# Altium footprint library AtaPcbLib.PcbLib: 50 footprints (part 3 of 4)
Each footprint in its own frame and in the unit in brackets; x right, y up, seen from the top. Pads: shape width x height; smd on the part's side, far side on the other; paste and mask are expansions set on the pad; w line width, h text height; cw(c..) or ccw(c..) is an arc to the next point about the centre after c.
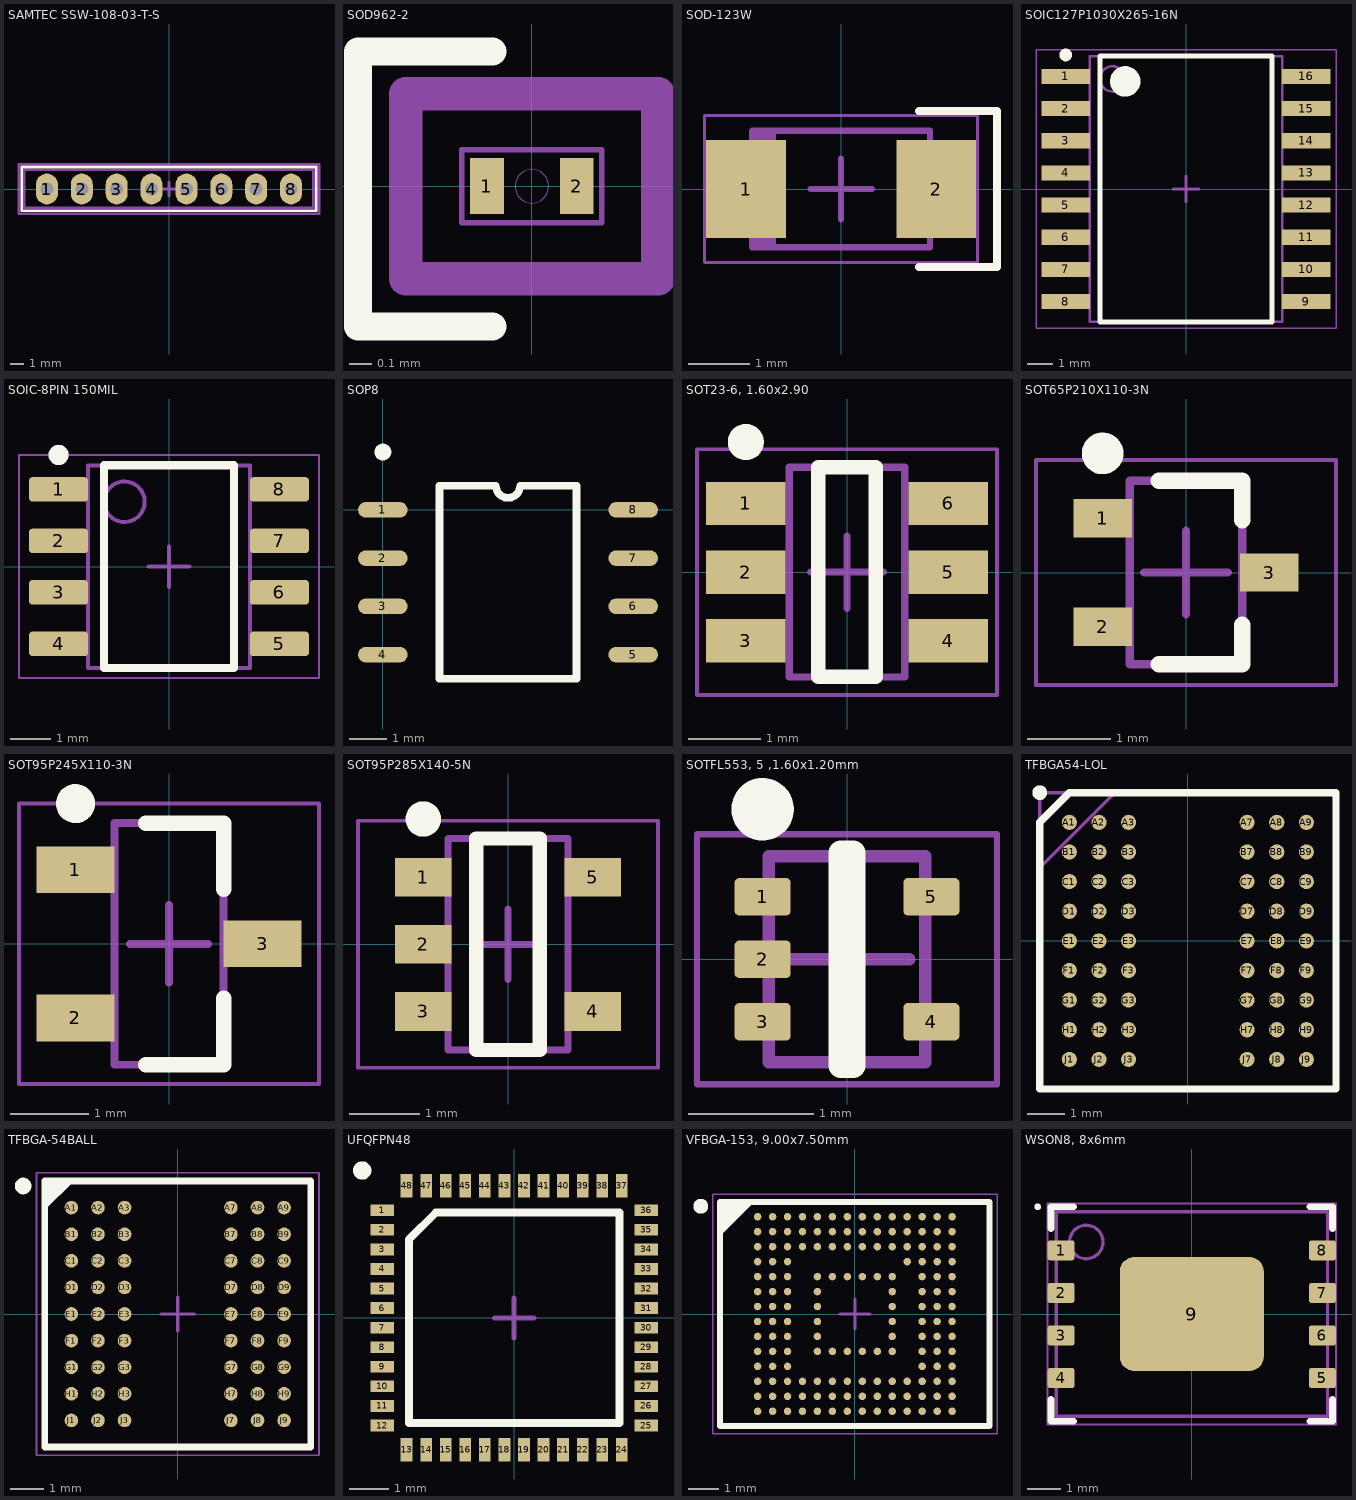
[diagram p2: the footprints below, top view; thin cyan lines are the x and y axes]

## SAMTEC SSW-108-03-T-S [mm]
height 8.51
pads (8):
  oval 1.6x2.25 hole 0.95: 1(-8.89,0) 2(-6.35,0) 3(-3.81,0) 4(-1.27,0) 5(1.27,0) 6(3.81,0) 7(6.35,0) 8(8.89,0)
Top Overlay:
  lines w0.2: -10.719,-1.575 -4.905,-1.575 4.905,-1.575 10.719,-1.575 10.719,1.6 -10.719,1.6 -10.719,-1.575
Mechanical 13:
  lines w0.2: -10.541,-1.372 -10.541,1.397 10.516,1.397 10.516,-1.372 -10.541,-1.372
Mechanical 15:
  lines w0.2: -0.5,0 0.5,0 ; 0,-0.5 0,0.5 ; -10.92,-1.8 10.92,-1.8 10.92,1.8 -10.92,1.8 -10.92,-1.8
3D body "Samtec-SSW-108-03-T-S.STEP": height 8.51, standoff -10.01, extent -10.414,-1.206 10.414,1.207

## SOD962-2 [mil]
pads (2):
  rect 6x10 smd paste+0 mask+0: 1(-8,0) 2(8,0)
Top Overlay:
  lines w5: -7,-25 -31,-25 -31,24 -8,24 -7,24
Mechanical 13:
  circle w0: c0,0 r3
  lines w1: -12.5,-6.5 12.5,-6.5 12.5,6.5 -12.5,6.5 -12.5,-6.5
Mechanical 15:
  lines w6: -22.5,-16.5 -22.5,-15 -22.5,15 -22.5,16.5 22.5,16.5 22.5,15 22.5,-15 22.5,-16.5 -22.5,-16.5
3D body "SOD962-2_DSN0603-2_NEX.step": height 13.11, standoff 0, extent -12.52,-6.5 12.52,6.5

## SOD-123W [mm] "Molded Diode, 2-Leads, Body 2,75x1,80mm, IPC Medium Density"
height 1.02
pads (2):
  rect 1.3x1.6 smd: 1(-1.55,0) 2(1.55,0)
Top Overlay:
  lines w0.127: 1.27,-1.27 2.54,-1.27 2.54,1.27 1.27,1.27
Mechanical 13:
  rectangle: -1.45,-0.95 -1.06,0.95
  lines w0.1: -1.45,-0.95 1.45,-0.95 1.45,0.95 -1.45,0.95 -1.45,-0.95
Mechanical 15:
  lines w0.05: -2.225,-1.2 2.225,-1.2 2.225,1.2 -2.225,1.2 -2.225,-1.2
  lines w0.1: -0.5,0 0.5,0 ; 0,-0.5 0,0.5
3D body "SOD-123W.step": height 1.02, standoff 0, extent -1.67,-0.95 1.67,0.95

## SOIC127P1030X265-16N [mm] "SOIC, 16-Leads, Body 10,29x7,49mm, Pitch 1,27mm, IPC Medium Density"
height 2.65
pads (16):
  rect 1.9x0.6 smd: 1(-4.75,4.445) 2(-4.75,3.175) 3(-4.75,1.905) 4(-4.75,0.635) 5(-4.75,-0.635) 6(-4.75,-1.905) 7(-4.75,-3.175) 8(-4.75,-4.445) 9(4.75,-4.445) 10(4.75,-3.175) 11(4.75,-1.905) 12(4.75,-0.635) 13(4.75,0.635) 14(4.75,1.905) 15(4.75,3.175) 16(4.75,4.445)
Top Overlay:
  circle w0.6: c-2.4,4.25 r0.3
  circle w0.25: c-4.75,5.295 r0.125
  lines w0.2: -3.4,-5.25 3.4,-5.25 3.4,5.25 -3.4,5.25 -3.4,-5.25
Mechanical 13:
  circle w0.1: c-2.9,4.35 r0.5
  lines w0.1: -3.8,-5.25 3.8,-5.25 3.8,5.25 -3.8,5.25 -3.8,-5.25
Mechanical 15:
  lines w0.05: -5.925,-5.5 5.925,-5.5 5.925,5.5 -5.925,5.5 -5.925,-5.5
  lines w0.1: -0.5,0 0.5,0 ; 0,-0.5 0,0.5
3D body "SOIC127P1030X265-16N.step": height 2.65, standoff 0, extent -5.162,-5.25 5.162,5.25

## SOIC-8PIN 150MIL [mm] "SOIC, 8-Leads, Body 4,90x3,90mm, Pitch 1,27mm, IPC Medium Density"
height 1.75
pads (8):
  rrect25% 1.45x0.6 smd mask+0.06: 1(-2.725,1.905) 2(-2.725,0.635) 3(-2.725,-0.635) 4(-2.725,-1.905) 5(2.725,-1.905) 6(2.725,-0.635) 7(2.725,0.635) 8(2.725,1.905)
Top Overlay:
  circle w0.25: c-2.725,2.755 r0.125
  lines w0.2: -1.6,-2.5 -1.6,2.5 1.6,2.5 1.6,-2.5 -1.6,-2.5
Mechanical 13:
  circle w0.1: c-1.1,1.6 r0.5
  lines w0.1: -2,-2.5 -2,2.5 2,2.5 2,-2.5 -2,-2.5
Mechanical 15:
  lines w0.05: -3.7,-2.75 -3.7,2.75 3.7,2.75 3.7,-2.75 -3.7,-2.75
  lines w0.1: -0.5,0 0.5,0 ; 0,-0.5 0,0.5
3D body "SOIC-8PIN 15MIL.step": height 1.75, standoff 0, extent -3,-2.5 3,2.5

## SOP8 [mm]
pads (8):
  oval 1.31x0.41 smd: 1(0,0) 2(0,-1.27) 3(0,-2.54) 4(0,-3.81) 5(6.59,-3.81) 6(6.59,-2.54) 7(6.59,-1.27) 8(6.59,0)
Top Overlay:
  circle w0.254: c0,1.524 r0.094
  lines w0.2: 1.49,-4.445 1.49,0.635 2.977,0.635 ccw(c3.295,0.635) 3.612,0.635 5.1,0.635 5.1,-4.445 1.49,-4.445

## SOT23-6, 1.60x2.90 [mm] "SOT23, 6-Leads, Body 2,90x2,80mm, Pitch 0,95mm, IPC Medium Density"
height 1.45
pads (6):
  rect 1.1x0.6 smd mask+0.05: 1(-1.4,0.95) 2(-1.4,0) 3(-1.4,-0.95) 4(1.4,-0.95) 5(1.4,0) 6(1.4,0.95)
Top Overlay:
  circle w0.25: c-1.4,1.8 r0.125
  lines w0.2: -0.4,-1.45 -0.4,1.45 0.4,1.45 0.4,-1.45 -0.4,-1.45
Mechanical 13:
  lines w0.1: -0.8,-1.45 0.8,-1.45 0.8,1.45 -0.8,1.45 -0.8,-1.45
Mechanical 15:
  lines w0.05: -2.075,-1.7 2.075,-1.7 2.075,1.7 -2.075,1.7 -2.075,-1.7
  lines w0.1: -0.5,0 0.5,0 ; 0,-0.5 0,0.5
3D body "SOT23-6, 1.60x2.90.step": height 1.45, standoff 0, extent -1.4,-1.45 1.4,1.45

## SOT65P210X110-3N [mm] "SOT23, 3-Leads, Body 2,00x2,10mm, Pitch 0,65mm, IPC Medium Density"
height 1.1
pads (3):
  rect 0.7x0.46 smd: 1(-1,0.65) 2(-1,-0.65) 3(1,0)
Top Overlay:
  circle w0.25: c-1,1.43 r0.125
  lines w0.2: -0.325,-1.1 0.675,-1.1 0.675,-0.63 ; -0.325,1.1 0.675,1.1 0.675,0.63
Mechanical 13:
  lines w0.1: -0.675,-1.1 0.675,-1.1 0.675,1.1 -0.675,1.1 -0.675,-1.1
Mechanical 15:
  lines w0.05: -1.8,-1.35 1.8,-1.35 1.8,1.35 -1.8,1.35 -1.8,-1.35
  lines w0.1: -0.5,0 0.5,0 ; 0,-0.5 0,0.5
3D body "SOT65P210X110-3N.step": height 1.1, standoff 0, extent -1.3,-1.1 1.3,1.1

## SOT95P245X110-3N [mm] "SOT23, 3-Leads, Body 3,00x2,45mm, Pitch 0,95mm, IPC Medium Density"
height 1.1
pads (3):
  rect 1x0.6 smd: 1(-1.2,0.95) 2(-1.2,-0.95) 3(1.2,0)
Top Overlay:
  circle w0.25: c-1.2,1.8 r0.125
  lines w0.2: -0.3,-1.55 0.7,-1.55 0.7,-0.7 ; -0.3,1.55 0.7,1.55 0.7,0.7
Mechanical 13:
  lines w0.1: -0.7,-1.55 -0.7,1.55 0.7,1.55 0.7,-1.55 -0.7,-1.55
Mechanical 15:
  lines w0.05: -1.925,-1.8 -1.925,1.8 1.925,1.8 1.925,-1.8 -1.925,-1.8
  lines w0.1: -0.5,0 0.5,0 ; 0,-0.5 0,0.5
3D body: height 1.1, standoff 0.05, extent -0.7,-1.55 0.7,1.55

## SOT95P285X140-5N [mm] "SOT23, 5-Leads, Body 2,85x2,85mm, Pitch 0,95mm, IPC Medium Density"
height 1.4
pads (5):
  rect 0.8x0.55 smd: 1(-1.2,0.95) 2(-1.2,0) 3(-1.2,-0.95) 4(1.2,-0.95) 5(1.2,0.95)
Top Overlay:
  circle w0.25: c-1.2,1.775 r0.125
  lines w0.2: -0.45,-1.5 -0.45,1.5 0.45,1.5 0.45,-1.5 -0.45,-1.5
Mechanical 13:
  lines w0.1: -0.85,-1.5 0.85,-1.5 0.85,1.5 -0.85,1.5 -0.85,-1.5
Mechanical 15:
  lines w0.05: -2.125,-1.75 2.125,-1.75 2.125,1.75 -2.125,1.75 -2.125,-1.75
  lines w0.1: -0.5,0 0.5,0 ; 0,-0.5 0,0.5
3D body "SOT95P285X140-5N.step": height 1.4, standoff 0, extent -1.5,-1.5 1.5,1.5

## SOTFL553, 5 ,1.60x1.20mm [mm] "SOTFL, 5-Leads, Body 1,60x1,60mm, Pitch 0,50mm, IPC Medium Density"
height 0.6
pads (5):
  rrect25% 0.45x0.3 smd mask+0.05: 1(-0.675,0.5) 2(-0.675,0) 3(-0.675,-0.5) 4(0.675,-0.5) 5(0.675,0.5)
Top Overlay:
  circle w0.25: c-0.675,1.2 r0.125
  lines w0.2: -0.05,-0.85 0.05,-0.85 0.05,0.85 -0.05,0.85 -0.05,-0.85
Mechanical 13:
  lines w0.1: -0.625,-0.825 -0.625,0.825 0.625,0.825 0.625,-0.825 -0.625,-0.825
Mechanical 15:
  lines w0.05: -1.2,-1 -1.2,1 1.2,1 1.2,-1 -1.2,-1
  lines w0.1: -0.5,0 0.5,0 ; 0,-0.5 0,0.5
3D body "SOTFL553, 5 ,1.60x1.20mm.step": height 0.6, standoff 0, extent -0.8,-0.823 0.8,0.823

## TFBGA54-LOL [mm]
pads (54):
  round 0.41 smd: A1(-3.2,3.2) A2(-2.4,3.2) A3(-1.6,3.2) A7(1.6,3.2) A8(2.4,3.2) A9(3.2,3.2) B1(-3.2,2.4) B2(-2.4,2.4) B3(-1.6,2.4) B7(1.6,2.4) B8(2.4,2.4) B9(3.2,2.4) C1(-3.2,1.6) C2(-2.4,1.6) C3(-1.6,1.6) C7(1.6,1.6) C8(2.4,1.6) C9(3.2,1.6) D1(-3.2,0.8) D2(-2.4,0.8) D3(-1.6,0.8) D7(1.6,0.8) D8(2.4,0.8) D9(3.2,0.8) E1(-3.2,0) E2(-2.4,0) E3(-1.6,0) E7(1.6,0) E8(2.4,0) E9(3.2,0) F1(-3.2,-0.8) F2(-2.4,-0.8) F3(-1.6,-0.8) F7(1.6,-0.8) F8(2.4,-0.8) F9(3.2,-0.8) G1(-3.2,-1.6) G2(-2.4,-1.6) G3(-1.6,-1.6) G7(1.6,-1.6) G8(2.4,-1.6) G9(3.2,-1.6) H1(-3.2,-2.4) H2(-2.4,-2.4) H3(-1.6,-2.4) H7(1.6,-2.4) H8(2.4,-2.4) H9(3.2,-2.4) J1(-3.2,-3.2) J2(-2.4,-3.2) J3(-1.6,-3.2) J7(1.6,-3.2) J8(2.4,-3.2) J9(3.2,-3.2)
Top Overlay:
  circle w0.2: c-4,4 r0.1
  lines w0.2: -4,-4 4,-4 4,4 -3.2,4 -4,3.2 -4,-4
Mechanical 15:
  lines w0.1: -4,1.975 -1.975,4 ; -4,-4 4,-4 4,4 -4,4 -4,-4

## TFBGA-54BALL [mm] "BGA, 54-Leads, Body 8,00x8,00mmx1,20mm, Pitch 0,80mm"
height 1.2
pads (54):
  round 0.41 smd mask+0.04: A1(-3.2,3.2) A2(-2.4,3.2) A3(-1.6,3.2) A7(1.6,3.2) A8(2.4,3.2) A9(3.2,3.2) B1(-3.2,2.4) B2(-2.4,2.4) B3(-1.6,2.4) B7(1.6,2.4) B8(2.4,2.4) B9(3.2,2.4) C1(-3.2,1.6) C2(-2.4,1.6) C3(-1.6,1.6) C7(1.6,1.6) C8(2.4,1.6) C9(3.2,1.6) D1(-3.2,0.8) D2(-2.4,0.8) D3(-1.6,0.8) D7(1.6,0.8) D8(2.4,0.8) D9(3.2,0.8) E1(-3.2,0) E2(-2.4,0) E3(-1.6,0) E7(1.6,0) E8(2.4,0) E9(3.2,0) F1(-3.2,-0.8) F2(-2.4,-0.8) F3(-1.6,-0.8) F7(1.6,-0.8) F8(2.4,-0.8) F9(3.2,-0.8) G1(-3.2,-1.6) G2(-2.4,-1.6) G3(-1.6,-1.6) G7(1.6,-1.6) G8(2.4,-1.6) G9(3.2,-1.6) H1(-3.2,-2.4) H2(-2.4,-2.4) H3(-1.6,-2.4) H7(1.6,-2.4) H8(2.4,-2.4) H9(3.2,-2.4) J1(-3.2,-3.2) J2(-2.4,-3.2) J3(-1.6,-3.2) J7(1.6,-3.2) J8(2.4,-3.2) J9(3.2,-3.2)
Top Overlay:
  circle w0.25: c-4.65,3.85 r0.125
  region: -3.256,4 -4,3.256 -4,4
  lines w0.2: -4,3.256 -3.256,4 ; -4,-4 4,-4 4,4 -4,4 -4,-4
Mechanical 13:
  lines w0.1: -4,-4 4,-4 4,4 -4,4 -4,-4
Mechanical 15:
  lines w0.05: -4.25,-4.25 4.25,-4.25 4.25,4.25 -4.25,4.25 -4.25,-4.25
  lines w0.1: -0.5,0 0.5,0 ; 0,-0.5 0,0.5
3D body "TFBGA-54BALL.step": height 1.2, standoff 0, extent -4,-4 4,4

## UFQFPN48 [mm]
pads (48):
  rect 0.6x0.3 smd mask+0.04: 1(-3.375,2.75) 2(-3.375,2.25) 3(-3.375,1.75) 4(-3.375,1.25) 5(-3.375,0.75) 6(-3.375,0.25) 7(-3.375,-0.25) 8(-3.375,-0.75) 9(-3.375,-1.25) 10(-3.375,-1.75) 11(-3.375,-2.25) 12(-3.375,-2.75) 25(3.375,-2.75) 26(3.375,-2.25) 27(3.375,-1.75) 28(3.375,-1.25) 29(3.375,-0.75) 30(3.375,-0.25) 31(3.375,0.25) 32(3.375,0.75) 33(3.375,1.25) 34(3.375,1.75) 35(3.375,2.25) 36(3.375,2.75)
  rect 0.3x0.6 smd mask+0.04: 13(-2.75,-3.375) 14(-2.25,-3.375) 15(-1.75,-3.375) 16(-1.25,-3.375) 17(-0.75,-3.375) 18(-0.25,-3.375) 19(0.25,-3.375) 20(0.75,-3.375) 21(1.25,-3.375) 22(1.75,-3.375) 23(2.25,-3.375) 24(2.75,-3.375) 37(2.75,3.375) 38(2.25,3.375) 39(1.75,3.375) 40(1.25,3.375) 41(0.75,3.375) 42(0.25,3.375) 43(-0.25,3.375) 44(-0.75,3.375) 45(-1.25,3.375) 46(-1.75,3.375) 47(-2.25,3.375) 48(-2.75,3.375)
Top Overlay:
  circle w0.254: c-3.883,3.766 r0.108
  lines w0.2: -2.69,-2.69 -2.69,2.005 -2.005,2.69 2.69,2.69 2.69,-2.69 -2.69,-2.69
Mechanical 15:
  lines w0.127: 0,-0.508 0,0 ; 0,0 -0.508,0 0,0 ; 0,0 0.508,0 0,0 ; 0,0 0,0.508 0,0
3D body "UFQFPN-48_7X7X0P55MM.step": height 0.61, standoff 0, extent -3.556,-3.556 3.556,3.556

## VFBGA-153, 9.00x7.50mm [mm]
height 0.8
pads (153):
  round 0.25 smd mask+0.05: A1(-3.25,3.25) A2(-2.75,3.25) A3(-2.25,3.25) A4(-1.75,3.25) A5(-1.25,3.25) A6(-0.75,3.25) A7(-0.25,3.25) A8(0.25,3.25) A9(0.75,3.25) A10(1.25,3.25) A11(1.75,3.25) A12(2.25,3.25) A13(2.75,3.25) A14(3.25,3.25) B1(-3.25,2.75) B2(-2.75,2.75) B3(-2.25,2.75) B4(-1.75,2.75) B5(-1.25,2.75) B6(-0.75,2.75) B7(-0.25,2.75) B8(0.25,2.75) B9(0.75,2.75) B10(1.25,2.75) B11(1.75,2.75) B12(2.25,2.75) B13(2.75,2.75) B14(3.25,2.75) C1(-3.25,2.25) C2(-2.75,2.25) C3(-2.25,2.25) C4(-1.75,2.25) C5(-1.25,2.25) C6(-0.75,2.25) C7(-0.25,2.25) C8(0.25,2.25) C9(0.75,2.25) C10(1.25,2.25) C11(1.75,2.25) C12(2.25,2.25) C13(2.75,2.25) C14(3.25,2.25) D1(-3.25,1.75) D2(-2.75,1.75) D3(-2.25,1.75) D11(1.75,1.75) D12(2.25,1.75) D13(2.75,1.75) D14(3.25,1.75) E1(-3.25,1.25) E2(-2.75,1.25) E3(-2.25,1.25) E5(-1.25,1.25) E6(-0.75,1.25) E7(-0.25,1.25) E8(0.25,1.25) E9(0.75,1.25) E10(1.25,1.25) E12(2.25,1.25) E13(2.75,1.25) E14(3.25,1.25) F1(-3.25,0.75) F2(-2.75,0.75) F3(-2.25,0.75) F5(-1.25,0.75) F10(1.25,0.75) F12(2.25,0.75) F13(2.75,0.75) F14(3.25,0.75) G1(-3.25,0.25) G2(-2.75,0.25) G3(-2.25,0.25) G5(-1.25,0.25) G10(1.25,0.25) G12(2.25,0.25) G13(2.75,0.25) G14(3.25,0.25) H1(-3.25,-0.25) H2(-2.75,-0.25) H3(-2.25,-0.25) H5(-1.25,-0.25) H10(1.25,-0.25) H12(2.25,-0.25) H13(2.75,-0.25) H14(3.25,-0.25) J1(-3.25,-0.75) J2(-2.75,-0.75) J3(-2.25,-0.75) J5(-1.25,-0.75) J10(1.25,-0.75) J12(2.25,-0.75) J13(2.75,-0.75) J14(3.25,-0.75) K1(-3.25,-1.25) K2(-2.75,-1.25) K3(-2.25,-1.25) K5(-1.25,-1.25) K6(-0.75,-1.25) K7(-0.25,-1.25) K8(0.25,-1.25) K9(0.75,-1.25) K10(1.25,-1.25) K12(2.25,-1.25) K13(2.75,-1.25) K14(3.25,-1.25) L1(-3.25,-1.75) L2(-2.75,-1.75) L3(-2.25,-1.75) L12(2.25,-1.75) L13(2.75,-1.75) L14(3.25,-1.75) M1(-3.25,-2.25) M2(-2.75,-2.25) M3(-2.25,-2.25) M4(-1.75,-2.25) M5(-1.25,-2.25) M6(-0.75,-2.25) M7(-0.25,-2.25) M8(0.25,-2.25) M9(0.75,-2.25) M10(1.25,-2.25) M11(1.75,-2.25) M12(2.25,-2.25) M13(2.75,-2.25) M14(3.25,-2.25) N1(-3.25,-2.75) N2(-2.75,-2.75) N3(-2.25,-2.75) N4(-1.75,-2.75) N5(-1.25,-2.75) N6(-0.75,-2.75) N7(-0.25,-2.75) N8(0.25,-2.75) N9(0.75,-2.75) N10(1.25,-2.75) N11(1.75,-2.75) N12(2.25,-2.75) N13(2.75,-2.75) N14(3.25,-2.75) P1(-3.25,-3.25) P2(-2.75,-3.25) P3(-2.25,-3.25) P4(-1.75,-3.25) P5(-1.25,-3.25) P6(-0.75,-3.25) P7(-0.25,-3.25) P8(0.25,-3.25) P9(0.75,-3.25) P10(1.25,-3.25) P11(1.75,-3.25) P12(2.25,-3.25) P13(2.75,-3.25) P14(3.25,-3.25)
Top Overlay:
  circle w0.25: c-5.15,3.6 r0.125
  region: -3.5,3.75 -4.5,2.75 -4.5,3.75
  lines w0.2: -4.5,2.75 -3.5,3.75 ; -4.5,-3.75 -4.5,3.75 4.5,3.75 4.5,-3.75 -4.5,-3.75
Mechanical 13:
  lines w0.1: -4.5,-3.75 -4.5,3.75 4.5,3.75 4.5,-3.75 -4.5,-3.75
Mechanical 15:
  lines w0.05: -4.75,-4 -4.75,4 4.75,4 4.75,-4 -4.75,-4
  lines w0.1: -0.5,0 0.5,0 ; 0,-0.5 0,0.5
3D body "VFBGA-153, 9.00x7.50mm.step": height 0.8, standoff 0, extent -4.5,-3.75 4.5,3.75

## WSON8, 8x6mm [mm]
pads (9):
  rrect25% 0.8x0.6 smd mask+0.05: 1(-3.9,1.9) 2(-3.9,0.63) 3(-3.9,-0.64) 4(-3.9,-1.91) 5(3.9,-1.91) 6(3.9,-0.64) 7(3.9,0.63) 8(3.9,1.9)
  rrect25% 4.3x3.4 smd paste-2.15 mask+0.05: 9(0,0)
Top Overlay:
  circle w0.1: c-4.6,3.2 r0.05
  lines w0.2: -4.2,-2.555 -4.2,-3.2 -3.53,-3.2 ; -4.2,2.555 -4.2,3.2 -3.53,3.2 ; 3.53,-3.2 4.2,-3.2 4.2,-2.555 ; 3.53,3.2 4.2,3.2 4.2,2.555
Top Paste:
  rectangle: -2.045,0.665 -0.815,1.595
  rectangle: -2.045,-0.465 -0.815,0.465
  rectangle: -2.045,-1.595 -0.815,-0.665
  rectangle: -0.615,0.665 0.615,1.595
  rectangle: -0.615,-0.465 0.615,0.465
  rectangle: -0.615,-1.595 0.615,-0.665
  rectangle: 0.815,0.665 2.045,1.595
  rectangle: 0.815,-0.465 2.045,0.465
  rectangle: 0.815,-1.595 2.045,-0.665
Mechanical 13:
  circle w0.1: c-3.15,2.15 r0.5
  lines w0.1: -4.05,-3.05 -4.05,3.05 4.05,3.05 4.05,-3.05 -4.05,-3.05
Mechanical 15:
  lines w0.05: -4.305,-3.3 -4.305,3.3 4.305,3.3 4.305,-3.3 -4.305,-3.3
  lines w0.1: -0.5,0 0.5,0 ; 0,-0.5 0,0.5
3D body "WSON8, 8x6mm.step": height 0.8, standoff 0, extent -4.051,-3.05 4.051,3.05